# EAGLE library part ADS7953QDBTRQ1 (library ADS7953QDBTRQ1)
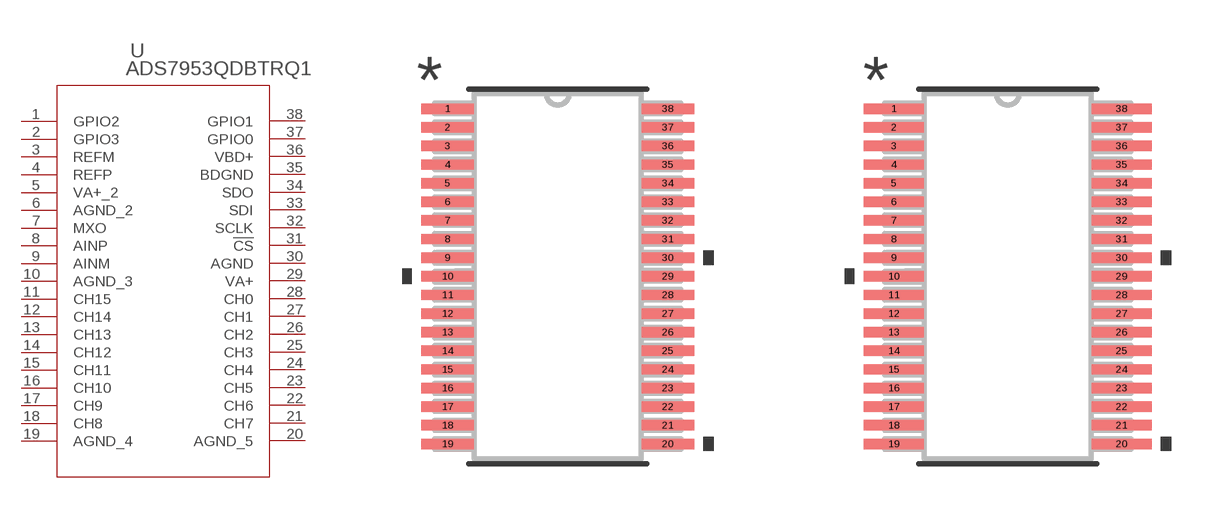
[diagram p0: symbol with the pads of DBT38_TEX; footprints DBT38_TEX, DBT38_TEX-M]

Designator prefix U

## ADS7953QDBTRQ1 (BUILT_BY: EMA_Jessica; COPYRIGHT: Copyright (C) 2018 Accelerated Designs. All rights reserved; MANUFACTURER_PART_NUMBER: ADS7953QDBTRQ1; SOURCELIBRARY: TI_2019-03-25_2; VENDOR: Texas Instruments)  [DBT38_TEX]
1  GPIO2
2  GPIO3
3  REFM  in
4  REFP  in
5  VA+_2  pwr
6  AGND_2  pwr
7  MXO  out
8  AINP  in
9  AINM  in
10  AGND_3  pwr
11  CH15  in
12  CH14  in
13  CH13  in
14  CH12  in
15  CH11  in
16  CH10  in
17  CH9  in
18  CH8  in
19  AGND_4  pwr
20  AGND_5  pwr
21  CH7  in
22  CH6  in
23  CH5  in
24  CH4  in
25  CH3  in
26  CH2  in
27  CH1  in
28  CH0  in
29  VA+  pwr
30  AGND  pwr
31  !CS  in
32  SCLK  in
33  SDI  in
34  SDO  out
35  BDGND  pwr
36  VBD+  pwr
37  GPIO0
38  GPIO1

## ADS7953QDBTRQ1DBT38_TEX-M (BUILT_BY: EMA_Jessica; COPYRIGHT: Copyright (C) 2018 Accelerated Designs. All rights reserved; MANUFACTURER_PART_NUMBER: ADS7953QDBTRQ1; SOURCELIBRARY: TI_2019-03-25_2; VENDOR: Texas Instruments)  [DBT38_TEX-M]
Pads as for DBT38_TEX

## ADS7953QDBTRQ1DBT38_TEX-L (BUILT_BY: EMA_Jessica; COPYRIGHT: Copyright (C) 2018 Accelerated Designs. All rights reserved; MANUFACTURER_PART_NUMBER: ADS7953QDBTRQ1; SOURCELIBRARY: TI_2019-03-25_2; VENDOR: Texas Instruments)  [DBT38_TEX-L]
Pads as for DBT38_TEX

## Footprint DBT38_TEX (pad centres in mm)
smd 1.41 x 0.279: 1 -2.953,4.5; 2 -2.953,4; 3 -2.953,3.5; 4 -2.953,3; 5 -2.953,2.5; 6 -2.953,2; 7 -2.953,1.5; 8 -2.953,1; 9 -2.953,0.5; 10 -2.953,0; 11 -2.953,-0.5; 12 -2.953,-1; 13 -2.953,-1.5; 14 -2.953,-2; 15 -2.953,-2.5; 16 -2.953,-3; 17 -2.953,-3.5; 18 -2.953,-4; 19 -2.953,-4.5; 20 2.953,-4.5; 21 2.953,-4; 22 2.953,-3.5; 23 2.953,-3; 24 2.953,-2.5; 25 2.953,-2; 26 2.953,-1.5; 27 2.953,-1; 28 2.953,-0.5; 29 2.953,0; 30 2.953,0.5; 31 2.953,1; 32 2.953,1.5; 33 2.953,2; 34 2.953,2.5; 35 2.953,3; 36 2.953,3.5; 37 2.953,4; 38 2.953,4.5

## Footprint DBT38_TEX-M (pad centres in mm)
smd 1.613 x 0.279: 1 -3.054,4.5; 2 -3.054,4; 3 -3.054,3.5; 4 -3.054,3; 5 -3.054,2.5; 6 -3.054,2; 7 -3.054,1.5; 8 -3.054,1; 9 -3.054,0.5; 10 -3.054,0; 11 -3.054,-0.5; 12 -3.054,-1; 13 -3.054,-1.5; 14 -3.054,-2; 15 -3.054,-2.5; 16 -3.054,-3; 17 -3.054,-3.5; 18 -3.054,-4; 19 -3.054,-4.5; 20 3.054,-4.5; 21 3.054,-4; 22 3.054,-3.5; 23 3.054,-3; 24 3.054,-2.5; 25 3.054,-2; 26 3.054,-1.5; 27 3.054,-1; 28 3.054,-0.5; 29 3.054,0; 30 3.054,0.5; 31 3.054,1; 32 3.054,1.5; 33 3.054,2; 34 3.054,2.5; 35 3.054,3; 36 3.054,3.5; 37 3.054,4; 38 3.054,4.5

## Footprint DBT38_TEX-L (pad centres in mm)
smd 1.168 x 0.229: 1 -2.87,4.5; 2 -2.87,4; 3 -2.87,3.5; 4 -2.87,3; 5 -2.87,2.5; 6 -2.87,2; 7 -2.87,1.5; 8 -2.87,1; 9 -2.87,0.5; 10 -2.87,0; 11 -2.87,-0.5; 12 -2.87,-1; 13 -2.87,-1.5; 14 -2.87,-2; 15 -2.87,-2.5; 16 -2.87,-3; 17 -2.87,-3.5; 18 -2.87,-4; 19 -2.87,-4.5; 20 2.87,-4.5; 21 2.87,-4; 22 2.87,-3.5; 23 2.87,-3; 24 2.87,-2.5; 25 2.87,-2; 26 2.87,-1.5; 27 2.87,-1; 28 2.87,-0.5; 29 2.87,0; 30 2.87,0.5; 31 2.87,1; 32 2.87,1.5; 33 2.87,2; 34 2.87,2.5; 35 2.87,3; 36 2.87,3.5; 37 2.87,4; 38 2.87,4.5